# Altium schematic symbol library V_2.SchLib: 4 symbols
Pins are listed as number, name and electrical type; pins without a type are passive.

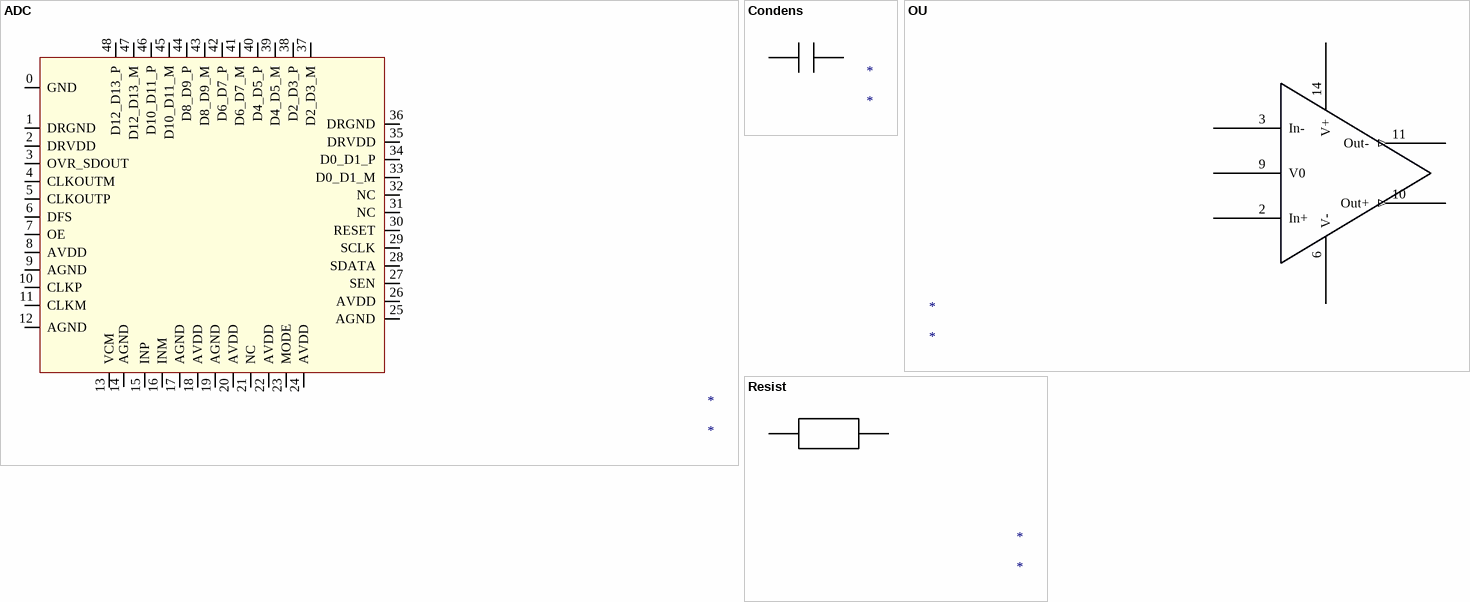
[diagram p0: symbols ADC to Resist]

## ADC
designator *
pins: 0 GND, 1 DRGND, 2 DRVDD, 3 OVR_SDOUT, 4 CLKOUTM, 5 CLKOUTP, 6 DFS, 7 OE, 8 AVDD, 9 AGND, 10 CLKP, 11 CLKM, 12 AGND, 13 VCM, 14 AGND, 15 INP, 16 INM, 17 AGND, 18 AVDD, 19 AGND, 20 AVDD, 21 NC, 22 AVDD, 23 MODE, 24 AVDD, 25 AGND, 26 AVDD, 27 SEN, 28 SDATA, 29 SCLK, 30 RESET, 31 NC, 32 NC, 33 D0_D1_M, 34 D0_D1_P, 35 DRVDD, 36 DRGND, 37 D2_D3_M, 38 D2_D3_P, 39 D4_D5_M, 40 D4_D5_P, 41 D6_D7_M, 42 D6_D7_P, 43 D8_D9_M, 44 D8_D9_P, 45 D10_D11_M, 46 D10_D11_P, 47 D12_D13_M, 48 D12_D13_P

## Condens
designator *

## OU
designator *
pins: 2 In+, 3 In-, 6 V-, 9 V0, 10    Out+ (out), 11 Out- (out), 14 V+

## Resist
designator *